# Altium footprint library SM_C_0201.PcbLib: 1 footprints
Each footprint in its own frame and in the unit in brackets; x right, y up, seen from the top. Pads: shape width x height; smd on the part's side, far side on the other; paste and mask are expansions set on the pad; w line width, h text height; cw(c..) or ccw(c..) is an arc to the next point about the centre after c.
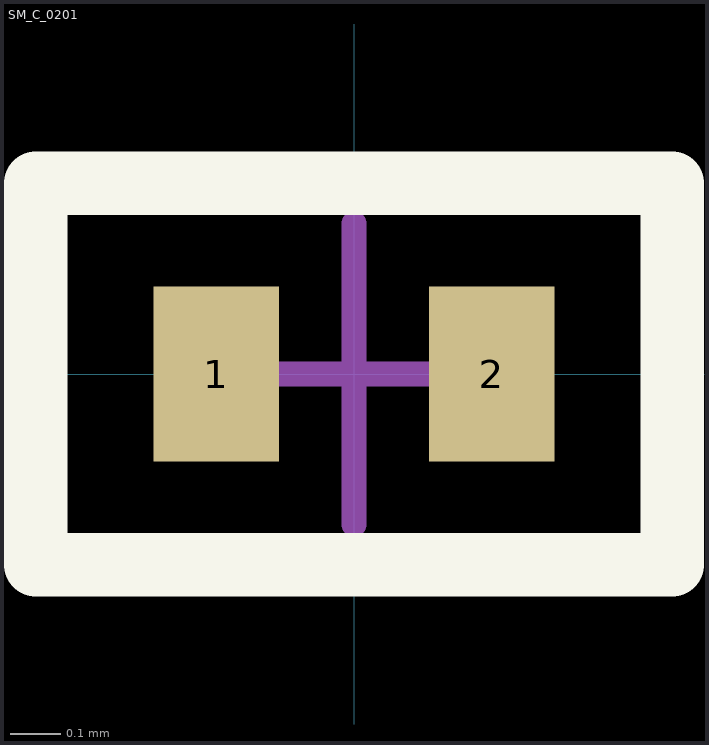
[diagram p0: the footprint, top view; thin cyan lines are the x and y axes]

## SM_C_0201 [mm]
pads (2):
  rect 0.25x0.35 smd mask+0.076: 1(-0.275,0) 2(0.275,0)
Top Overlay:
  lines w0.127: -0.635,-0.381 0.635,-0.381 0.635,0.381 -0.635,0.381 -0.635,-0.381
Mechanical 15:
  lines w0.05: -0.3,0 0.3,0 ; -0.225,0 0.325,0 ; 0,-0.3 0,0.3
  lines w0.076: -0.635,-0.381 0.635,-0.381 0.635,0.381 -0.635,0.381 -0.635,-0.381
3D body: height 0.33, standoff 0, extent -0.315,-0.165 -0.165,0.165
3D body: height 0.33, standoff 0, extent 0.165,-0.165 0.315,0.165
3D body: height 0.33, standoff 0, extent -0.165,-0.165 0.165,0.165